# EAGLE library part PINHD-6 (library m_connector)
6 Pin Header
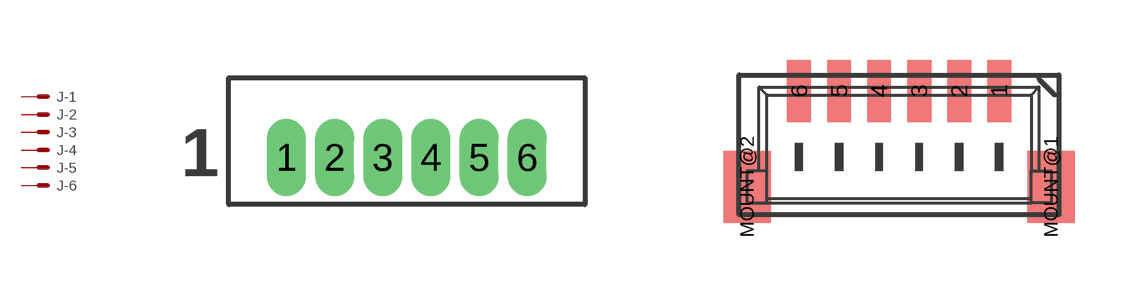
[diagram p4: symbol with the pads of MOLEX_53047-0610; footprints MOLEX_53047-0610, MOLEX_501331-0607]

Designator prefix J; gates -1=M -2=M -3=M -4=M -5=M -6=M

## PINHD-6MOLEX-PICOBLADE (MANUF: Molex; PARTNUM: 53047-0610)  [MOLEX_53047-0610]
1  -1:S  pas
2  -2:S  pas
3  -3:S  pas
4  -4:S  pas
5  -5:S  pas
6  -6:S  pas

## PINHD-6MOLEX-PICOCLASP  [MOLEX_501331-0607]
Pads as for MOLEX_53047-0610

## Footprint MOLEX_53047-0610 (pad centres in mm)
Molex 53047 Series, 1.25mm Pitch, 6 Conductor Molex 1.25mm pitch through hole connector. Pre tinned phosphor bronze pins, mates with 51021 series.
drill 0.5 long: 1 -3.125,0; 2 -1.875,0; 3 -0.625,0; 4 0.625,0; 5 1.875,0; 6 3.125,0

## Footprint MOLEX_501331-0607 (pad centres in mm)
1.00mm Pitch Pico-Clasp™ Wire-to-Board Header, Surface Mount, Single Row, Vertical, Tin Plated, with Inner Friction Lock, with Pick-and-Place Tape, 6 Circuits http://www.molex.com/molex/products/datasheet.jsp?part=active/5013310507_PCB_HEADERS.xml
smd 0.6 x 1.55: 1 2.5,1.6; 2 1.5,1.6; 3 0.5,1.6; 4 -0.5,1.6; 5 -1.5,1.6; 6 -2.5,1.6
smd 1.2 x 1.8: MOUNT@1 3.8,-0.8; MOUNT@2 -3.8,-0.8